# Altium schematic symbol library TPS74601PBDRVR.SchLib: 1 symbol
Pins are listed as number, name and electrical type; pins without a type are passive.

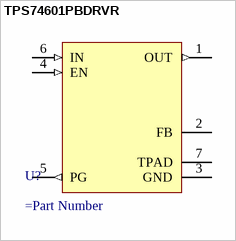
[diagram p0: symbol TPS74601PBDRVR]

## TPS74601PBDRVR
designator U?
=Description
pins: 1 OUT (out), 2 FB, 3 GND (power), 4 EN (in), 5 PG (out), 6 IN (in), 7 TPAD (power)